# EAGLE library part TRF7970A (library my_library)
Multi-Protocol Fully Integrated 13.56-MHz NFC / RFID Transceiver IC
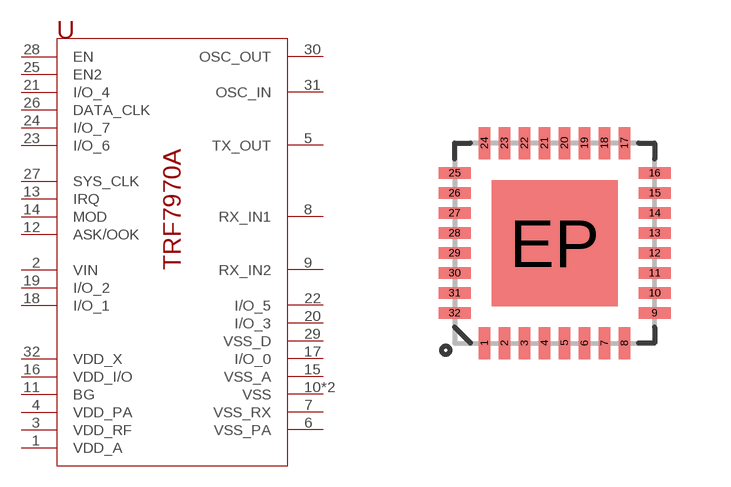
[diagram p0: symbol with the pads of QFN-32; footprint QFN-32]

Designator prefix U

## TRF7970A  [QFN-32]
1  VDD_A
2  VIN
3  VDD_RF
4  VDD_PA
5  TX_OUT
6  VSS_PA
7  VSS_RX
8  RX_IN1
9  RX_IN2
10  VSS
11  BG
12  ASK/OOK
13  IRQ
14  MOD
15  VSS_A
16  VDD_I/O
17  I/O_0
18  I/O_1
19  I/O_2
20  I/O_3
21  I/O_4
22  I/O_5
23  I/O_6
24  I/O_7
25  EN2
26  DATA_CLK
27  SYS_CLK
28  EN
29  VSS_D
30  OSC_OUT
31  OSC_IN
32  VDD_X
EP  VSS

## Footprint QFN-32 (pad centres in mm)
QFN 32-Pin package w/ Thermal Pad ***Unproven*** Applicable Parts: TLC5940
smd 0.285 x 0.8: 1 -1.75,-2.5; 2 -1.25,-2.5; 3 -0.75,-2.5; 4 -0.25,-2.5; 5 0.25,-2.5; 6 0.75,-2.5; 7 1.25,-2.5; 8 1.75,-2.5; 17 1.75,2.5; 18 1.25,2.5; 19 0.75,2.5; 20 0.25,2.5; 21 -0.25,2.5; 22 -0.75,2.5; 23 -1.25,2.5; 24 -1.75,2.5
smd 0.8 x 0.285: 9 2.5,-1.75; 10 2.5,-1.25; 11 2.5,-0.75; 12 2.5,-0.25; 13 2.5,0.25; 14 2.5,0.75; 15 2.5,1.25; 16 2.5,1.75; 25 -2.5,1.75; 26 -2.5,1.25; 27 -2.5,0.75; 28 -2.5,0.25; 29 -2.5,-0.25; 30 -2.5,-0.75; 31 -2.5,-1.25; 32 -2.5,-1.75
smd 3.15 x 3.15: EP 0,0